# EAGLE library part JACK1/4" (library EW_Connectors)
PCB mounting stereo switching jack, 6.35 mm Klinkeneinbaukupplung nach JISC 6560, 6,35 mm, 3-polig/stereo, abgewinkelte Ausführung, mit 2 Umschaltern, Leiterplatten Rückseitenmontage Source: http://www.rapidelectronics
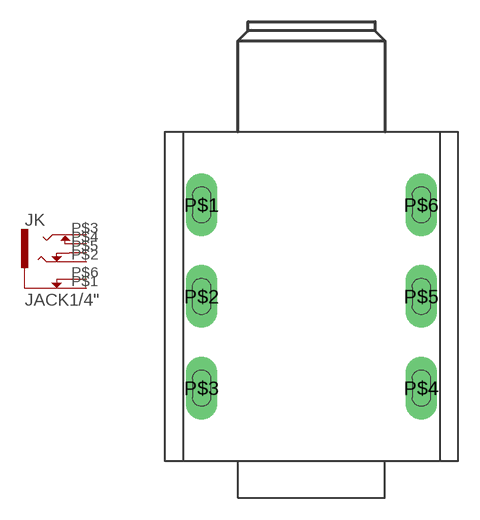
[diagram p14: symbol with the pads of JACK1/4"; footprint JACK1/4"]

Designator prefix JK

## JACK1/4" (OC_FARNELL: 1200145; OC_NEWARK: unknown)  [JACK1/4"]
P$1  1  pas
P$2  2  pas
P$3  3  pas
P$4  4  pas
P$5  5  pas
P$6  6  pas

## Footprint JACK1/4" (pad centres in mm)
Jack connectors according to JISC 6560, 6.35 mm Klinkeneinbaukupplung nach JISC 6560, 6,35 mm, 3-polig/stereo, abgewinkelte Ausführung, mit 2 Umschaltern, Leiterplatten Rückseitenmontage Source: http://www.lumberg.de/Produkte/PDFs/KLBRSS3.pdf
drill 0.8 pad 2.184 long: P$1 -7.62,-5.08; P$2 -7.62,-11.43; P$3 -7.62,-17.78; P$4 7.62,-17.78; P$5 7.62,-11.43; P$6 7.62,-5.08